# EAGLE library part JP6E (library machine_science)
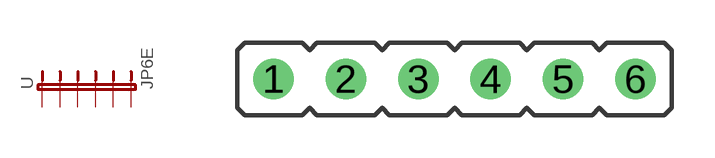
[diagram p33: symbol with the pads of JP6; footprint JP6]

Designator prefix -

## JP6E  [JP6]
1  1  pas
2  2  pas
3  3  pas
4  4  pas
5  5  pas
6  6  pas

## Footprint JP6 (pad centres in mm)
drill 0.914 round: 1 -6.35,0; 2 -3.81,0; 3 -1.27,0; 4 1.27,0; 5 3.81,0; 6 6.35,0